# Altium footprint library PcbLib.PcbLib: 8 footprints
Each footprint in its own frame and in the unit in brackets; x right, y up, seen from the top. Pads: shape width x height; smd on the part's side, far side on the other; paste and mask are expansions set on the pad; w line width, h text height; cw(c..) or ccw(c..) is an arc to the next point about the centre after c.
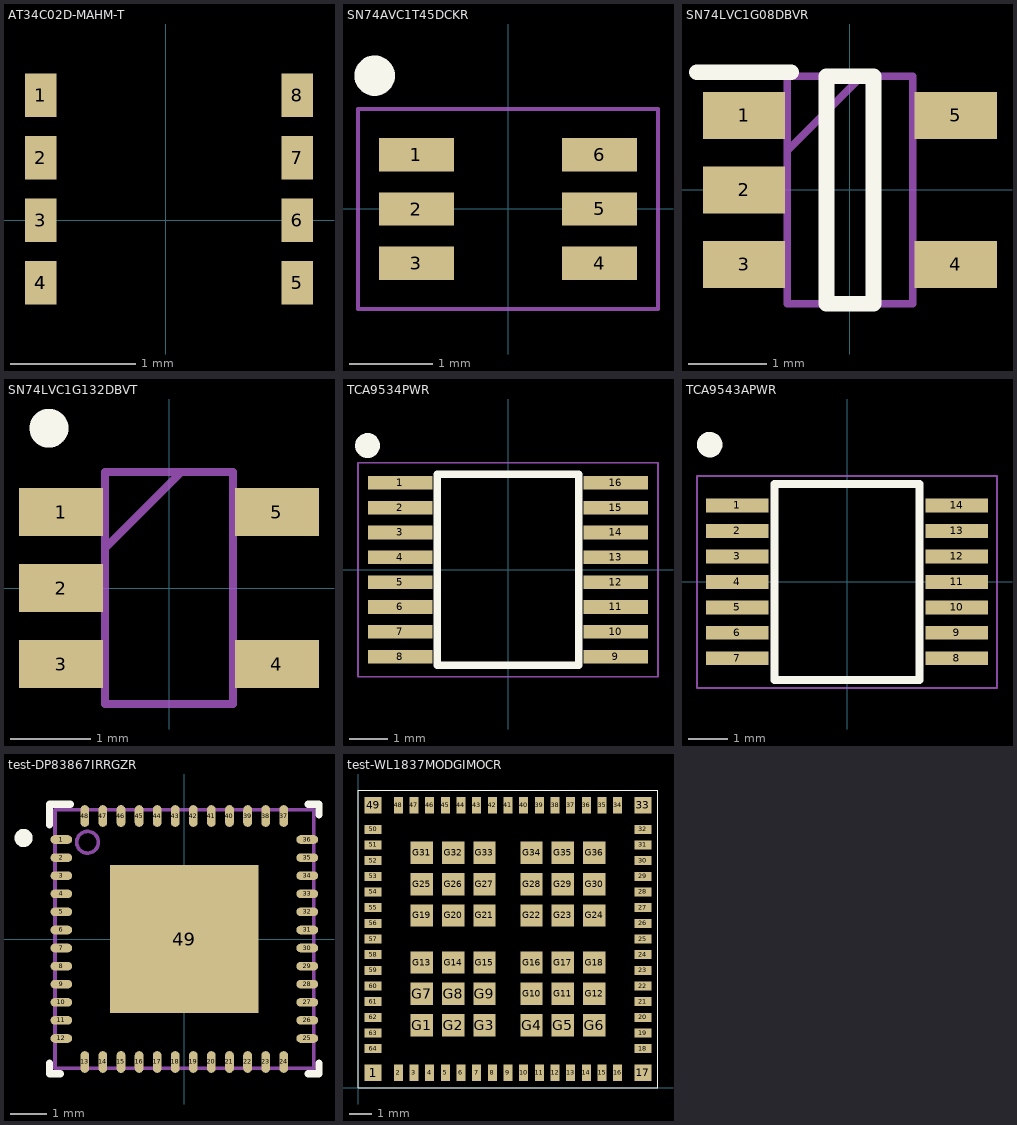
[diagram p0: the footprints below, top view; thin cyan lines are the x and y axes]

## AT34C02D-MAHM-T [mm] "IC EEPROM 2KBIT 1MHZ 8UDFN"
pads (9):
  rect 0.25x0.35 smd mask+0.03: 1(-1,1) 2(-1,0.5) 3(-1,0) 4(-1,-0.5) 4(-1,-0.5) 5(1.05,-0.5) 6(1.05,0) 7(1.05,0.5) 8(1.05,1)

## SN74AVC1T45DCKR [mm] "IC BUS TRANSCVR TRI-ST SC70-6"
pads (6):
  rect 0.9x0.4 smd mask+0.05: 1(-1.1,0.65) 2(-1.1,0) 3(-1.1,-0.65) 4(1.1,-0.65) 5(1.1,0) 6(1.1,0.65)
Top Overlay:
  circle w0.325: c-1.6,1.6 r0.08
Mechanical 20:
  lines w0.05: -1.8,-1.2 -1.8,1.2 1.8,1.2 1.8,-1.2 -1.8,-1.2
3D body "DCK6.step": height 1.09, standoff 0, extent -1.206,-1.08 1.206,1.08

## SN74LVC1G08DBVR [mm] "IC GATE AND 1CH 2-INP SOT-23-5"
pads (5):
  rect 1.05x0.6 smd mask+0.07: 1(-1.35,0.95) 2(-1.35,0) 3(-1.35,-0.95) 4(1.35,-0.95) 5(1.35,0.95)
Top Overlay:
  lines w0.2: -1.95,1.5 -0.75,1.5 ; -0.3,-1.45 0.3,-1.45 0.3,1.45 -0.3,1.45 -0.3,-1.45
Mechanical 15:
  lines w0.1: -0.8,0.5 0.15,1.45 ; -0.8,-1.45 0.8,-1.45 0.8,1.45 -0.8,1.45 -0.8,-1.45
3D body "SN74LVC1G08DBVR.stp": height 1.45, standoff 0, extent -1.4,-1.45 1.4,1.45

## SN74LVC1G132DBVT [mm]
pads (5):
  rect 1.05x0.6 smd mask+0.07: 1(-1.35,0.95) 2(-1.35,0) 3(-1.35,-0.95) 4(1.35,-0.95) 5(1.35,0.95)
Top Overlay:
  circle w0.325: c-1.5,2 r0.08
Mechanical 15:
  lines w0.1: -0.8,0.5 0.15,1.45 ; -0.8,-1.45 0.8,-1.45 0.8,1.45 -0.8,1.45 -0.8,-1.45
3D body "DBV5.step": height 1.45, standoff 0, extent -1.499,-1.524 1.499,1.524

## TCA9534PWR [mil] "IC I/O EXPANDER I2C 8B 16TSSOP"
pads (16):
  rect 66x14 smd: 1(-111,89.57) 2(-111,63.98) 3(-111,38.39) 4(-111,12.8) 5(-111,-12.8) 6(-111,-38.39) 7(-111,-63.98) 8(-111,-89.57) 9(111,-89.57) 10(111,-63.98) 11(111,-38.39) 12(111,-12.8) 13(111,12.8) 14(111,38.39) 15(111,63.98) 16(111,89.57)
Top Overlay:
  circle w12.8: c-144.69,127.95 r6.42
  lines w7.87: -72.83,-98.43 72.83,-98.43 72.83,98.43 -72.83,98.43 -72.83,-98.43
Mechanical 20:
  lines w1.97: -154.53,-110.24 154.53,-110.24 154.53,110.24 -154.53,110.24 -154.53,-110.24
3D body "TCA9534PWR.stp": height 47.24, standoff 0, extent -125.98,-98.42 125.99,98.43

## TCA9543APWR [mm] "IC I2C SW 2CH W/RESET 14TSSOP"
pads (14):
  rect 1.6x0.35 smd mask+0.07: 1(-2.8,1.95) 2(-2.8,1.3) 3(-2.8,0.65) 4(-2.8,0) 5(-2.8,-0.65) 6(-2.8,-1.3) 7(-2.8,-1.95) 8(2.8,-1.95) 9(2.8,-1.3) 10(2.8,-0.65) 11(2.8,0) 12(2.8,0.65) 13(2.8,1.3) 14(2.8,1.95)
Top Overlay:
  circle w0.325: c-3.5,3.5 r0.163
  lines w0.2: -1.85,-2.5 1.85,-2.5 1.85,2.5 -1.85,2.5 -1.85,-2.5
Mechanical 20:
  lines w0.05: -3.825,-2.7 3.825,-2.7 3.825,2.7 -3.825,2.7 -3.825,-2.7

## test-DP83867IRRGZR [mm] "Ethernet Switch"
pads (49):
  oval 0.6x0.24 smd paste+0 mask+0.051: 1(-3.4,2.75) 2(-3.4,2.25) 3(-3.4,1.75) 4(-3.4,1.25) 5(-3.4,0.75) 6(-3.4,0.25) 7(-3.4,-0.25) 8(-3.4,-0.75) 9(-3.4,-1.25) 10(-3.4,-1.75) 11(-3.4,-2.25) 12(-3.4,-2.75) 25(3.4,-2.75) 26(3.4,-2.25) 27(3.4,-1.75) 28(3.4,-1.25) 29(3.4,-0.75) 30(3.4,-0.25) 31(3.4,0.25) 32(3.4,0.75) 33(3.4,1.25) 34(3.4,1.75) 35(3.4,2.25) 36(3.4,2.75)
  oval 0.24x0.6 smd paste+0 mask+0.051: 13(-2.75,-3.4) 14(-2.25,-3.4) 15(-1.75,-3.4) 16(-1.25,-3.4) 17(-0.75,-3.4) 18(-0.25,-3.4) 19(0.25,-3.4) 20(0.75,-3.4) 21(1.25,-3.4) 22(1.75,-3.4) 23(2.25,-3.4) 24(2.75,-3.4) 37(2.75,3.4) 38(2.25,3.4) 39(1.75,3.4) 40(1.25,3.4) 41(0.75,3.4) 42(0.25,3.4) 43(-0.25,3.4) 44(-0.75,3.4) 45(-1.25,3.4) 46(-1.75,3.4) 47(-2.25,3.4) 48(-2.75,3.4)
  rect 4.1x4.1 smd paste-2.037 mask+0.051: 49(0,0)
Top Overlay:
  circle w0.25: c-4.445,2.794 r0.125
  lines w0.2: -3.725,-3.425 -3.725,-3.725 -3.425,-3.725 ; -3.725,3.15 -3.725,3.725 -3.15,3.725 ; 3.425,-3.725 3.725,-3.725 3.725,-3.425 ; 3.425,3.725 3.725,3.725 3.725,3.425
Top Paste:
  region: 0.1,1.835 0.1,0.1 1.835,0.1 1.835,1.835
  region: -0.1,0.1 -0.1,1.835 -1.835,1.835 -1.835,0.1
  region: -0.1,-1.835 -0.1,-0.1 -1.835,-0.1 -1.835,-1.835
  region: 0.1,-0.1 0.1,-1.835 1.835,-1.835 1.835,-0.1
Mechanical 13:
  circle w0.1: c-2.675,2.675 r0.3
  lines w0.1: -3.575,-3.575 3.575,-3.575 3.575,3.575 -3.575,3.575 -3.575,-3.575
3D body: height 0.25, standoff 0, extent 0,0 0.254,0.254
3D body "RGZ0048B.stp": height 1, standoff 0, extent -3.5,-3.5 3.5,3.5

## test-WL1837MODGIMOCR [mm] "WL18x7MOD is a Wi-Fi,  dual-band, 2.4- and 5-GHz module solution"
pads (100):
  rect 0.75x0.75 smd mask+0.03: 1(0.675,0.675) 17(12.725,0.675) 33(12.725,12.625) 49(0.675,12.625)
  rect 0.4x0.75 smd mask+0.03: 2(1.8,0.675) 3(2.5,0.675) 4(3.2,0.675) 5(3.9,0.675) 6(4.6,0.675) 7(5.3,0.675) 8(6,0.675) 9(6.7,0.675) 10(7.4,0.675) 11(8.1,0.675) 12(8.8,0.675) 13(9.5,0.675) 14(10.2,0.675) 15(10.9,0.675) 16(11.6,0.675) 34(11.6,12.625) 35(10.9,12.625) 36(10.2,12.625) 37(9.5,12.625) 38(8.8,12.625) 39(8.1,12.625) 40(7.4,12.625) 41(6.7,12.625) 42(6,12.625) 43(5.3,12.625) 44(4.6,12.625) 45(3.9,12.625) 46(3.2,12.625) 47(2.5,12.625) 48(1.8,12.625)
  rect 0.75x0.4 smd mask+0.03: 18(12.725,1.75) 19(12.725,2.45) 20(12.725,3.15) 21(12.725,3.85) 22(12.725,4.55) 23(12.725,5.25) 24(12.725,5.95) 25(12.725,6.65) 26(12.725,7.35) 27(12.725,8.05) 28(12.725,8.75) 29(12.725,9.45) 30(12.725,10.15) 31(12.725,10.85) 32(12.725,11.55) 50(0.675,11.55) 51(0.675,10.85) 52(0.675,10.15) 53(0.675,9.45) 54(0.675,8.75) 55(0.675,8.05) 56(0.675,7.35) 57(0.675,6.65) 58(0.675,5.95) 59(0.675,5.25) 60(0.675,4.55) 61(0.675,3.85) 62(0.675,3.15) 63(0.675,2.45) 64(0.675,1.75)
  rect 1x1 smd mask+0.03: G1(2.85,2.8) G2(4.25,2.8) G3(5.65,2.8) G4(7.75,2.8) G5(9.15,2.8) G6(10.55,2.8) G7(2.85,4.2) G8(4.25,4.2) G9(5.65,4.2) G10(7.75,4.2) G11(9.15,4.2) G12(10.55,4.2) G13(2.85,5.6) G14(4.25,5.6) G15(5.65,5.6) G16(7.75,5.6) G17(9.15,5.6) G18(10.55,5.6) G19(2.85,7.7) G20(4.25,7.7) G21(5.65,7.7) G22(7.75,7.7) G23(9.15,7.7) G24(10.55,7.7) G25(2.85,9.1) G26(4.25,9.1) G27(5.65,9.1) G28(7.75,9.1) G29(9.15,9.1) G30(10.55,9.1) G31(2.85,10.5) G32(4.25,10.5) G33(5.65,10.5) G34(7.75,10.5) G35(9.15,10.5) G36(10.55,10.5)
Top Overlay:
  lines w0.05: 0,0 13.4,0 13.4,13.3 0,13.3 0,0